# EAGLE library part LPS22HB (library LPS22HB)
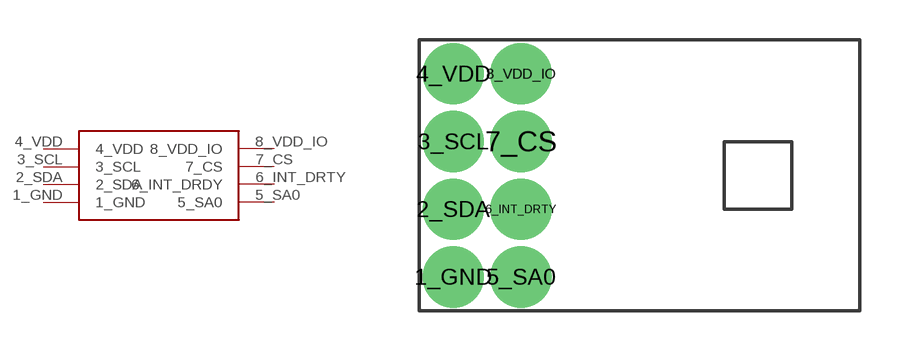
[diagram p0: symbol with the pads of LPS22HB; footprint LPS22HB]

Designator prefix LPS22HB

## LPS22HB  [LPS22HB]
1_GND  1_GND
2_SDA  2_SDA
3_SCL  3_SCL
4_VDD  4_VDD
5_SA0  5_SA0
6_INT_DRTY  6_INT_DRDY
7_CS  7_CS
8_VDD_IO  8_VDD_IO

## Footprint LPS22HB (pad centres in mm)
drill 1 pad 2.3: 1_GND 0,0; 2_SDA 0,2.54; 3_SCL 0,5.08; 4_VDD 0,7.62; 5_SA0 2.54,0; 6_INT_DRTY 2.54,2.54; 7_CS 2.54,5.08; 8_VDD_IO 2.54,7.62